# Altium footprint library Library.PcbLib: 20 footprints (part 2 of 2)
Each footprint in its own frame and in the unit in brackets; x right, y up, seen from the top. Pads: shape width x height; smd on the part's side, far side on the other; paste and mask are expansions set on the pad; w line width, h text height; cw(c..) or ccw(c..) is an arc to the next point about the centre after c.
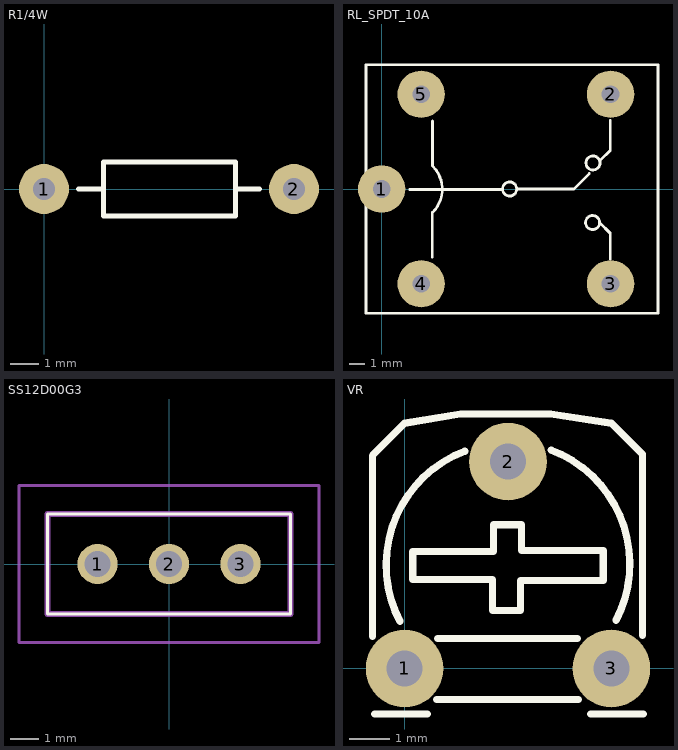
[diagram p1: the footprints below, top view; thin cyan lines are the x and y axes]

## R1/4W [mil] "R 1/4W, 2 Pin, 350mil"
height 100
pads (2):
  round 70 hole 31: 1(0,0) 2(350,0)
Top Overlay:
  lines w7: 48,0 83,0 ; 268,0 302,0 ; 83,-38 83,38 268,38 268,-38 83,-38
3D body "SW3dPS-AXIAL_RESISTOR(0.25W).STEP": height 111.42, standoff -50, extent -39.6,-47 385.6,47.49

## RL_SPDT_10A [mil] "Relay SPDT, 5 pin, 10A,W 650mil, L 800mil, H 800mil"
height 800
pads (5):
  round 120 hole 45: 1(0,0) 2(580,240) 3(580,-240) 4(100,-240) 5(100,240)
Top Overlay:
  circle w7: c534.2,-85 r17.8
  circle w7: c535.2,66 r17.8
  circle w7: c324.2,0 r17.8
  lines w7: 71,-1 304,-1 ; 128,-173 128,-60 ; 129,-59 ccw(c71.5,-0.5) 130,57 ; 129,58 129,172 ; 344,0 487,0 526,39 ; 552,-85 579,-112 579,-178 ; 553,72 579,98 579,174 ; -40,-315 -40,315 700,315 700,-315 -40,-315
3D body "User Library-SONGLE Relay SRU-12VDC-SL-C.step": height 602.36, standoff -196.85, extent -45.98,-304.24 705.98,306

## SS12D00G3 [mm]
pads (3):
  round 1.4 hole 0.9: 1(-2.5,0) 2(0,0) 3(2.5,0)
Top Overlay:
  lines w0.1: -4.25,-1.75 4.25,-1.75 4.25,1.75 -4.25,1.75 -4.25,-1.75
Mechanical 13:
  lines w0.2: -4.25,-1.75 4.25,-1.75 4.25,1.75 -4.25,1.75 -4.25,-1.75
Mechanical 15:
  lines w0.1: -5.25,-2.75 5.25,-2.75 5.25,2.75 -5.25,2.75 -5.25,-2.75
3D body "SS12D00G3.stp": height 6.7, standoff -3.65, extent -4.25,-1.75 4.25,1.75

## VR [mil] "Resistor Variable"
height 200
pads (3):
  round 75 hole 35: 1(0,0) 2(100,200) 3(200,0)
Top Overlay:
  lines w7: -31,31 -31,206 0,237 54,246 141.5,246 200,237 230,207 230,32 ; -29,-44 22,-44 ; -4.35,45.34 cw(c100,100) 58.1,210.1 ; 8,113 8,86 85,86 85,56 112,56 112,85 192,85 192,114 113,114 113,139 86,139 86,113 9,113 ; 31,-30 168,-30 ; 32,29 167,29 ; 141.9,211.1 cw(c100,101) 204.35,46.34 ; 180,-44 231,-44
3D body "SW3dPS-Trimpot Horizontal.STEP": height 165.35, standoff -220.47, extent -86.85,-30 306.85,371.57